# EAGLE library part MKW40-SINGLE-OUTPUT (library MinMax DC-DC Converters)
MKW40-SINGLE-OUTPUT This is for the single output variants of this series. MINMAX MKW40 Series. DC-DC Converter 40W, Regulated Output, 2"x1"
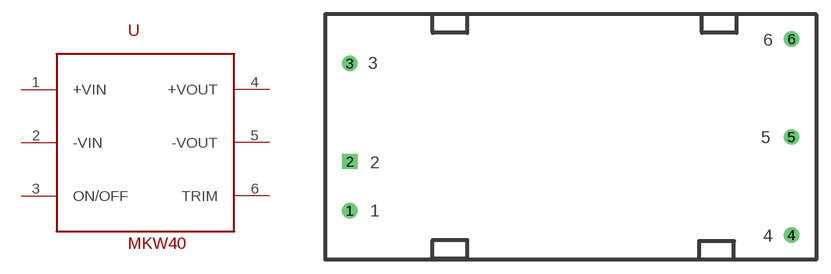
[diagram p2: symbol with the pads of 2"X1"; footprint 2"X1"]

Designator prefix -

## MKW40-SINGLE-OUTPUT  [2"X1"]
1  +VIN
2  -VIN
3  ON/OFF
4  +VOUT
5  -VOUT
6  TRIM

## Footprint 2"X1" (pad centres in mm)
MINMAX MDKW40 Series. Size: 2" x 1"
drill 1.05: 1 2.54,5.08; 3 2.54,20.32; 4 48.26,2.54; 5 48.26,12.7; 6 48.26,22.86
drill 1.05 square: 2 2.54,10.16